# Altium footprint library Optoelectronic.PCBLIB: 42 footprints (part 2 of 3)
Each footprint in its own frame and in the unit in brackets; x right, y up, seen from the top. Pads: shape width x height; smd on the part's side, far side on the other; paste and mask are expansions set on the pad; w line width, h text height; cw(c..) or ccw(c..) is an arc to the next point about the centre after c.
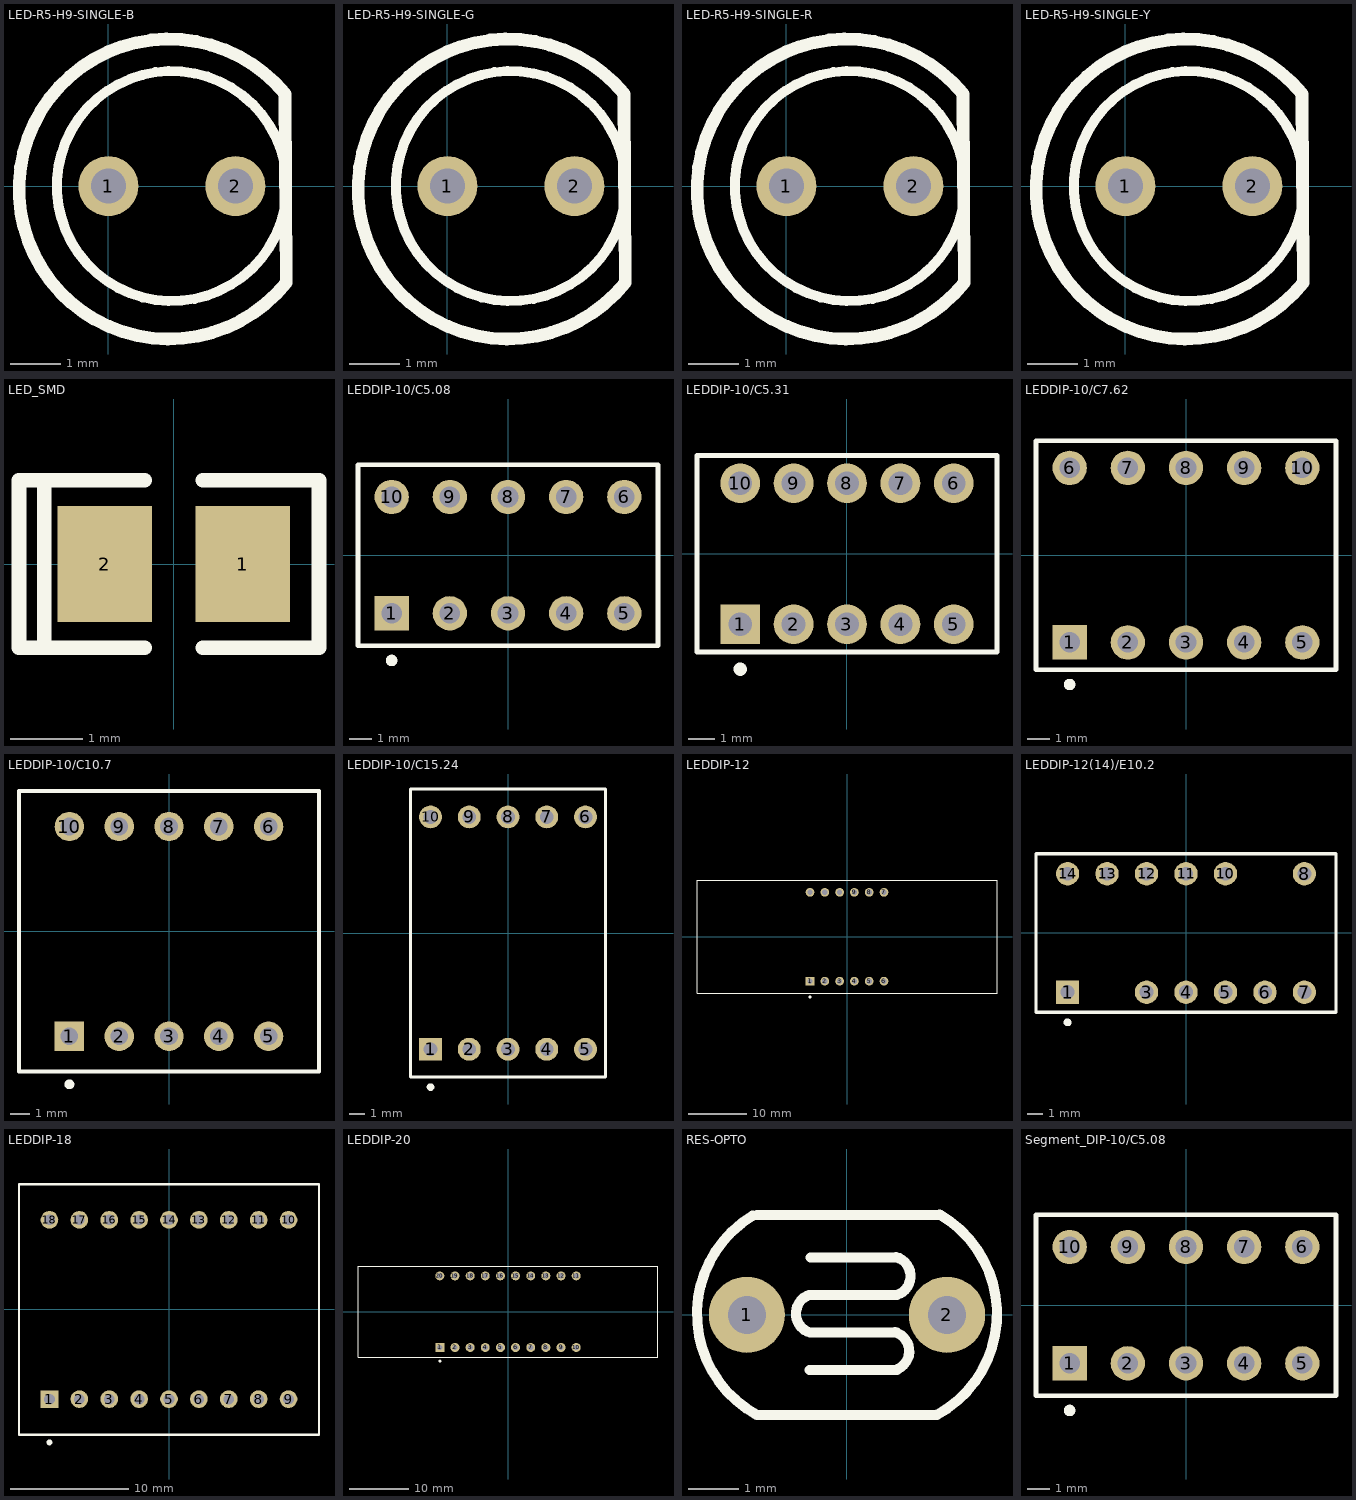
[diagram p1: the footprints below, top view; thin cyan lines are the x and y axes]

## LED-R5-H9-SINGLE-B [mm]
height 9
pads (2):
  round 1.2 hole 0.7: 1(0,0) 2(2.54,0)
Top Overlay:
  circle w0.2: c1.27,0 r2.3
  lines w0.254: 3.534,1.841 ccw(c1.212,-0.059) 3.555,-1.933 3.534,1.841
3D body "LED5_BLUE.STEP": height 1.5, standoff -9.1, extent -1.707,-2.85 3.643,2.85

## LED-R5-H9-SINGLE-G [mm]
height 9
pads (2):
  round 1.2 hole 0.7: 1(0,0) 2(2.54,0)
Top Overlay:
  circle w0.2: c1.27,0 r2.3
  lines w0.254: 3.534,1.841 ccw(c1.212,-0.059) 3.555,-1.933 3.534,1.841
3D body "LED5_GRE.STEP": height 1.5, standoff -9.1, extent -1.357,-2.977 3.993,2.723

## LED-R5-H9-SINGLE-R [mm]
height 9
pads (2):
  round 1.2 hole 0.7: 1(0,0) 2(2.54,0)
Top Overlay:
  circle w0.2: c1.27,0 r2.3
  lines w0.254: 3.534,1.841 ccw(c1.212,-0.059) 3.555,-1.933 3.534,1.841
3D body "LED5_RED.STEP": height 1.5, standoff -9.1, extent -1.357,-2.85 3.993,2.85

## LED-R5-H9-SINGLE-Y [mm]
height 9
pads (2):
  round 1.2 hole 0.7: 1(0,0) 2(2.54,0)
Top Overlay:
  circle w0.2: c1.27,0 r2.3
  lines w0.254: 3.534,1.841 ccw(c1.212,-0.059) 3.555,-1.933 3.534,1.841
3D body "LED5_YEL.STEP": height 1.5, standoff -9.1, extent -1.357,-2.85 3.993,2.85

## LED_SMD [mm]
height 2
pads (2):
  rect 1.3x1.6 smd: 1(0.95,0) 2(-0.95,0)
Top Overlay:
  lines w0.2: -1.78,-1.15 -1.78,1.15 ; -0.4,-1.15 -2.13,-1.15 -2.13,1.15 -0.4,1.15 ; 0.4,-1.15 2,-1.15 2,1.15 0.4,1.15

## LEDDIP-10/C5.08 [mm]
pads (10):
  rect 1.5x1.5 hole 0.9: 1(-5.08,-2.54)
  round 1.5 hole 0.9: 2(-2.54,-2.54) 3(0,-2.54) 4(2.54,-2.54) 5(5.08,-2.54) 6(5.08,2.54) 7(2.54,2.54) 8(0,2.54) 9(-2.54,2.54) 10(-5.08,2.54)
Top Overlay:
  circle w0.25: c-5.08,-4.6 r0.125
  lines w0.2: -6.55,-3.95 -6.55,3.95 6.55,3.95 6.55,-3.95 -6.55,-3.95

## LEDDIP-10/C5.31 [mm]
pads (10):
  rect 1.5x1.5 hole 0.9: 1(-4.02,-2.655)
  round 1.5 hole 0.9: 2(-2.01,-2.655) 3(0,-2.655) 4(2.01,-2.655) 5(4.02,-2.655) 6(4.02,2.655) 7(2.01,2.655) 8(0,2.655) 9(-2.01,2.655) 10(-4.02,2.655)
Top Overlay:
  circle w0.25: c-4.02,-4.35 r0.125
  lines w0.2: -5.65,-3.7 -5.65,3.7 5.65,3.7 5.65,-3.7 -5.65,-3.7

## LEDDIP-10/C7.62 [mm]
pads (10):
  rect 1.5x1.5 hole 0.9: 1(-5.08,-3.81)
  round 1.5 hole 0.9: 2(-2.54,-3.81) 3(0,-3.81) 4(2.54,-3.81) 5(5.08,-3.81) 6(-5.08,3.81) 7(-2.54,3.81) 8(0,3.81) 9(2.54,3.81) 10(5.08,3.81)
Top Overlay:
  circle w0.25: c-5.08,-5.65 r0.125
  lines w0.2: -6.55,-5 6.55,-5 6.55,5 -6.55,5 -6.55,-5

## LEDDIP-10/C10.7 [mm]
pads (10):
  rect 1.5x1.5 hole 0.9: 1(-5.08,-5.35)
  round 1.5 hole 0.9: 2(-2.54,-5.35) 3(0,-5.35) 4(2.54,-5.35) 5(5.08,-5.35) 6(5.08,5.35) 7(2.54,5.35) 8(0,5.35) 9(-2.54,5.35) 10(-5.08,5.35)
Top Overlay:
  circle w0.25: c-5.08,-7.8 r0.125
  lines w0.2: -7.65,-7.15 -7.65,-0.635 -7.65,7.15 7.65,7.15 7.65,-7.15 -7.65,-7.15

## LEDDIP-10/C15.24 [mm]
pads (10):
  rect 1.5x1.5 hole 0.9: 1(-5.08,-7.62)
  round 1.5 hole 0.9: 2(-2.54,-7.62) 3(0,-7.62) 4(2.54,-7.62) 5(5.08,-7.62) 6(5.08,7.62) 7(2.54,7.62) 8(0,7.62) 9(-2.54,7.62) 10(-5.08,7.62)
Top Overlay:
  circle w0.25: c-5.08,-10.1 r0.125
  lines w0.2: -6.4,-9.45 -6.4,9.45 6.4,9.45 6.4,-9.45 -6.4,-9.45

## LEDDIP-12 [mm]
pads (12):
  rect 1.5x1.5 hole 0.9: 1(-6.35,-7.62)
  round 1.5 hole 0.9: 2(-3.81,-7.62) 3(-1.27,-7.62) 4(1.27,-7.62) 5(3.81,-7.62) 6(6.35,-7.62) 7(6.35,7.62) 8(3.81,7.62) 9(1.27,7.62) 10(-1.27,7.62) 11(-3.81,7.62) 12(-6.35,7.62)
Top Overlay:
  circle w0.25: c-6.35,-10.35 r0.125
  lines w0.2: -25.75,-9.7 -25.75,9.7 25.75,9.7 25.75,-9.7 -25.75,-9.7

## LEDDIP-12(14)/E10.2 [mm]
pads (12):
  rect 1.5x1.5 hole 0.9: 1(-7.62,-3.81)
  round 1.5 hole 0.9: 3(-2.54,-3.81) 4(0,-3.81) 5(2.54,-3.81) 6(5.08,-3.81) 7(7.62,-3.81) 8(7.62,3.81) 10(2.54,3.81) 11(0,3.81) 12(-2.54,3.81) 13(-5.08,3.81) 14(-7.62,3.81)
Top Overlay:
  circle w0.25: c-7.62,-5.75 r0.125
  lines w0.2: -9.65,-5.1 -9.65,5.1 9.65,5.1 9.65,-5.1 -9.65,-5.1

## LEDDIP-18 [mm]
pads (18):
  rect 1.5x1.5 hole 0.9: 1(-10.16,-7.62)
  round 1.5 hole 0.9: 2(-7.62,-7.62) 3(-5.08,-7.62) 4(-2.54,-7.62) 5(0,-7.62) 6(2.54,-7.62) 7(5.08,-7.62) 8(7.62,-7.62) 9(10.16,-7.62) 10(10.16,7.62) 11(7.62,7.62) 12(5.08,7.62) 13(2.54,7.62) 14(0,7.62) 15(-2.54,7.62) 16(-5.08,7.62) 17(-7.62,7.62) 18(-10.16,7.62)
Top Overlay:
  circle w0.25: c-10.16,-11.3 r0.125
  lines w0.2: -12.75,-10.65 12.75,-10.65 12.75,10.65 -12.75,10.65 -12.75,-10.65

## LEDDIP-20 [mm]
pads (20):
  rect 1.5x1.5 hole 0.9: 1(-11.43,-6)
  round 1.5 hole 0.9: 2(-8.89,-6) 3(-6.35,-6) 4(-3.81,-6) 5(-1.27,-6) 6(1.27,-6) 7(3.81,-6) 8(6.35,-6) 9(8.89,-6) 10(11.43,-6) 11(11.43,6) 12(8.89,6) 13(6.35,6) 14(3.81,6) 15(1.27,6) 16(-1.27,6) 17(-3.81,6) 18(-6.35,6) 19(-8.89,6) 20(-11.43,6)
Top Overlay:
  circle w0.25: c-11.43,-8.3 r0.125
  lines w0.2: -25.15,-7.65 -25.15,7.65 25.15,7.65 25.15,-7.65 -25.15,-7.65

## RES-OPTO [mil]
height 118.11
pads (2):
  round 60 hole 30: 1(-78.74,0) 2(78.74,0)
Top Overlay:
  lines w7.99: -74.37,78.02 ccw(c-27.64,0.65) -70.87,-78.74 ; -29.53,15.75 ccw(c-24.61,0.98) -28.88,-13.98 ; 37.74,-13.58 cw(c33.46,-28.54) 38.39,-43.31 ; 38.72,45.48 cw(c34.45,30.51) 39.37,15.75 ; 70.95,-78.63 ccw(c27.72,0.76) 72.98,79
  lines w8: -70.87,78.74 70.87,78.74 ; -68.9,-78.74 68.9,-78.74 ; -29.53,-43.31 39.37,-43.31 ; -28.54,-13.78 39.37,-13.78 ; -28.54,15.75 39.37,15.75 ; -28.54,45.28 38.39,45.28
3D body "OptoRes.STEP": height 114.17, standoff -66.93, extent -114.93,-80 114.95,80

## Segment_DIP-10/C5.08 [mm]
pads (10):
  rect 1.5x1.5 hole 0.9: 1(-5.08,-2.54)
  round 1.5 hole 0.9: 2(-2.54,-2.54) 3(0,-2.54) 4(2.54,-2.54) 5(5.08,-2.54) 6(5.08,2.54) 7(2.54,2.54) 8(0,2.54) 9(-2.54,2.54) 10(-5.08,2.54)
Top Overlay:
  circle w0.25: c-5.08,-4.6 r0.125
  lines w0.2: -6.55,-3.95 -6.55,3.95 6.55,3.95 6.55,-3.95 -6.55,-3.95